# EAGLE library part TST-110-05-T-D-RA (library circuit_tree)
IC
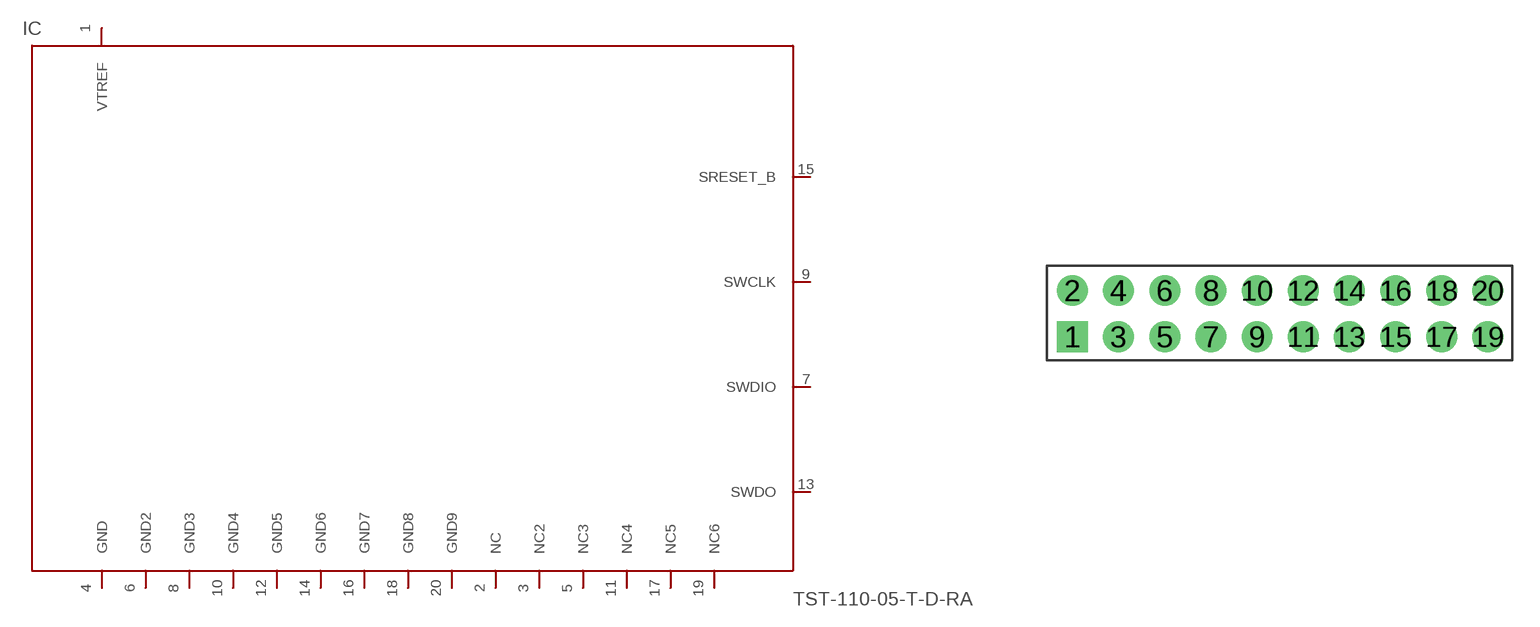
[diagram p9: symbol with the pads of TST-110-05-T-D-RA; footprint TST-110-05-T-D-RA]

Designator prefix IC

## TST-110-05-T-D-RA  [TST-110-05-T-D-RA]
1  VTREF  pas
2  NC  pas
3  NC2  pas
4  GND  pas
5  NC3  pas
6  GND2  pas
7  SWDIO  pas
8  GND3  pas
9  SWCLK  pas
10  GND4  pas
11  NC4  pas
12  GND5  pas
13  SWDO  pas
14  GND6  pas
15  SRESET_B  pas
16  GND7  pas
17  NC5  pas
18  GND8  pas
19  NC6  pas
20  GND9  pas

## Footprint TST-110-05-T-D-RA (pad centres in mm)
drill 1 pad 1.7 square: 1 0,0
drill 1 pad 1.7: 2 0,2.54; 3 2.54,0; 4 2.54,2.54; 5 5.08,0; 6 5.08,2.54; 7 7.62,0; 8 7.62,2.54; 9 10.16,0; 10 10.16,2.54; 11 12.7,0; 12 12.7,2.54; 13 15.24,0; 14 15.24,2.54; 15 17.78,0; 16 17.78,2.54; 17 20.32,0; 18 20.32,2.54; 19 22.86,0; 20 22.86,2.54